# EAGLE library part HM15 (library mod.A.con-subd)
SUB-D
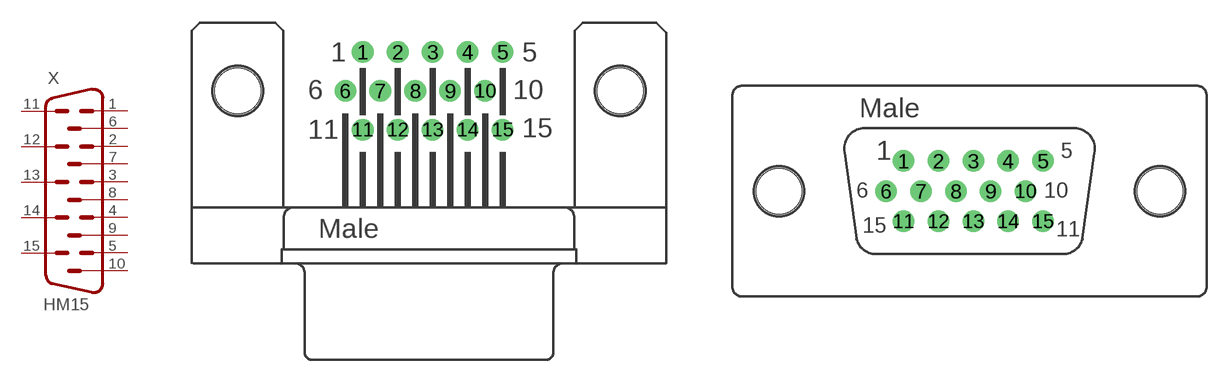
[diagram p39: symbol with the pads of HDM15H; footprints HDM15H, HDM15V]

Designator prefix X

## HM15H (OC_FARNELL: unknown; OC_NEWARK: unknown)  [HDM15H]
1  1  pas
2  2  pas
3  3  pas
4  4  pas
5  5  pas
6  6  pas
7  7  pas
8  8  pas
9  9  pas
10  10  pas
11  11  pas
12  12  pas
13  13  pas
14  14  pas
15  15  pas

## HM15V (OC_FARNELL: unknown; OC_NEWARK: unknown)  [HDM15V]
Pads as for HDM15H

## Footprint HDM15H (pad centres in mm)
SUB-D
drill 0.9: 1 -4.329,2.54; 2 -2.043,2.54; 3 0.243,2.54; 4 2.529,2.54; 5 4.815,2.54; 6 -5.472,0; 7 -3.186,0; 8 -0.9,0; 9 1.386,0; 10 3.672,0; 11 -4.329,-2.54; 12 -2.043,-2.54; 13 0.243,-2.54; 14 2.529,-2.54; 15 4.815,-2.54
hole 3 at -12.5,0
hole 3 at 12.5,0

## Footprint HDM15V (pad centres in mm)
SUB-D
drill 0.9: 1 -4.324,1.98; 2 -2.038,1.98; 3 0.248,1.98; 4 2.534,1.98; 5 4.82,1.98; 6 -5.467,0; 7 -3.181,0; 8 -0.895,0; 9 1.391,0; 10 3.677,0; 11 -4.324,-1.98; 12 -2.038,-1.98; 13 0.248,-1.98; 14 2.534,-1.98; 15 4.82,-1.98
hole 3 at -12.5,0
hole 3 at 12.5,0